# Altium schematic symbol library ic_digital.SchLib: 33 symbols
Pins are listed as number, name and electrical type; pins without a type are passive.

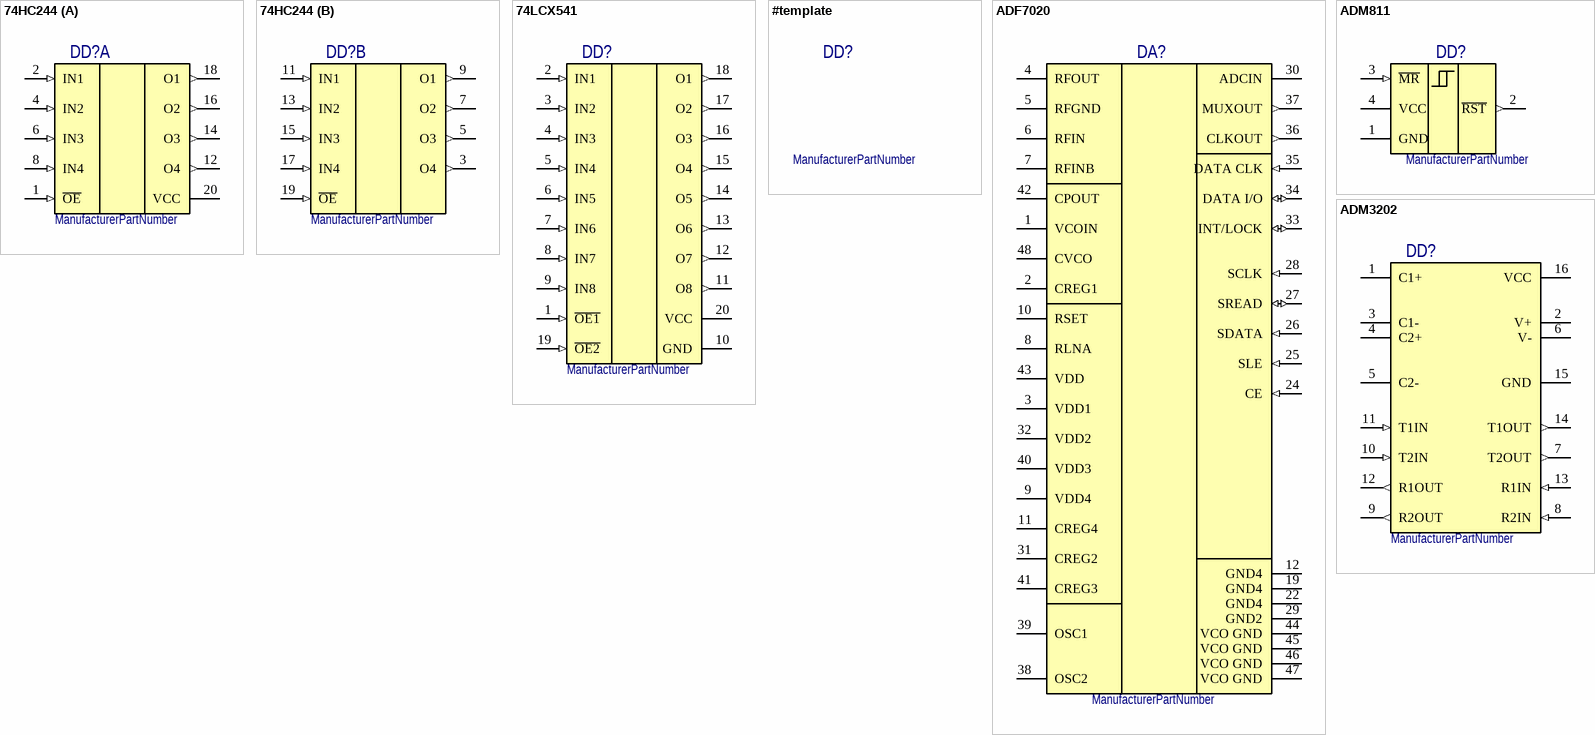
[diagram p0: symbols 74HC244 to ADM3202]

## 74HC244
designator DD?
ManufacturerPartNumber: ManufacturerPartNumber
part A pins: 1 ~{OE} (in), 2 IN1 (in), 4 IN2 (in), 6 IN3 (in), 8 IN4 (in), 10 GND (power) hidden to GND, 12 O4 (out), 14 O3 (out), 16 O2 (out), 18 O1 (out), 20 VCC (power)
part B pins: 3 O4 (out), 5 O3 (out), 7 O2 (out), 9 O1 (out), 11 IN1 (in), 13 IN2 (in), 15 IN3 (in), 17 IN4 (in), 19 ~{OE} (in)

## 74LCX541
designator DD?
ManufacturerPartNumber: ManufacturerPartNumber
pins: 1 ~{OE1} (in), 2 IN1 (in), 3 IN2 (in), 4 IN3 (in), 5 IN4 (in), 6 IN5 (in), 7 IN6 (in), 8 IN7 (in), 9 IN8 (in), 10 GND (power), 11 O8 (out), 12 O7 (out), 13 O6 (out), 14 O5 (out), 15 O4 (out), 16 O3 (out), 17 O2 (out), 18 O1 (out), 19 ~{OE2} (in), 20 VCC (power)

## #template
designator DD?
ManufacturerPartNumber: ManufacturerPartNumber

## ADF7020
designator DA?
ManufacturerPartNumber: ManufacturerPartNumber
pins: 1 VCOIN, 2 CREG1, 3 VDD1 (power), 4 RFOUT, 5 RFGND (power), 6 RFIN, 7 RFINB, 8 RLNA, 9 VDD4 (power), 10 RSET, 11 CREG4, 12 GND4 (power), 19 GND4 (power), 22 GND4 (power), 24 CE (in), 25 SLE (in), 26 SDATA (in), 27 SREAD (io), 28 SCLK (in), 29 GND2 (power), 30 ADCIN (power), 31 CREG2 (power), 32 VDD2 (power), 33 INT/LOCK (io), 34 DATA I/O (io), 35 DATA CLK (in), 36 CLKOUT (out), 37 MUXOUT (out), 38 OSC2, 39 OSC1, 40 VDD3 (power), 41 CREG3, 42 CPOUT, 43 VDD (power), 44 VCO GND (power), 45 VCO GND (power), 46 VCO GND (power), 47 VCO GND (power), 48 CVCO

## ADM811
designator DD?
ManufacturerPartNumber: ManufacturerPartNumber
pins: 1 GND (power), 2 ~{RST} (out), 3 ~{MR} (in), 4 VCC (power)

## ADM3202
designator DD?
ManufacturerPartNumber: ManufacturerPartNumber
pins: 1 C1+, 2 V+, 3 C1-, 4 C2+, 5 C2-, 6 V-, 7 T2OUT (out), 8 R2IN (in), 9 R2OUT (out), 10 T2IN (in), 11 T1IN (in), 12 R1OUT (out), 13 R1IN (in), 14 T1OUT (out), 15 GND (power), 16 VCC (power)

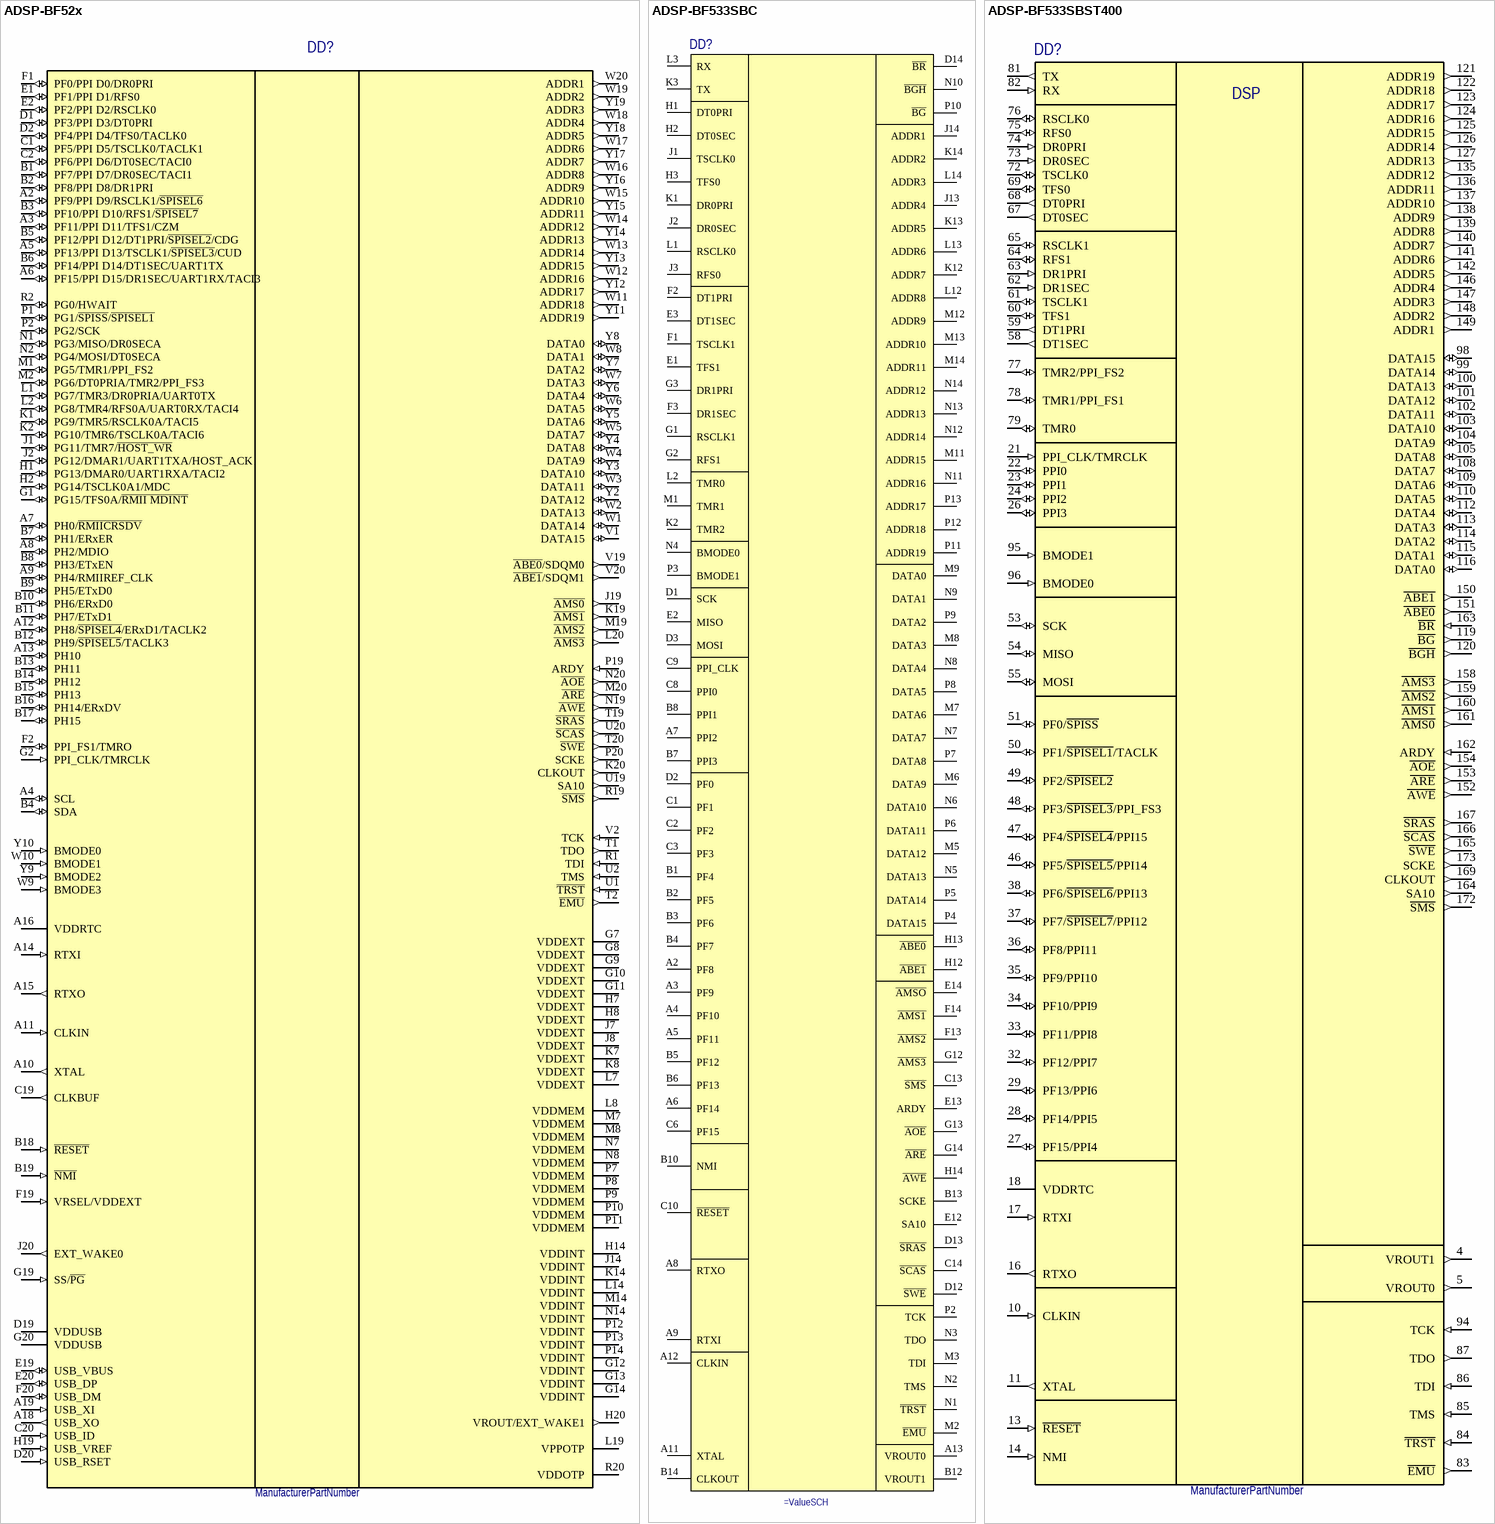
[diagram p1: symbols ADSP-BF52x to ADSP-BF533SBST400]

## ADSP-BF52x
designator DD?
ManufacturerPartNumber: ManufacturerPartNumber
pins: A1 GND (power) hidden to GND, A2 PF9/PPI D9/RSCLK1/~{SPISEL6} (io), A3 PF11/PPI D11/TFS1/CZM (io), A4 SCL (io), A5 PF13/PPI D13/TSCLK1/~{SPISEL3}/CUD (io), A6 PF15/PPI D15/DR1SEC/UART1RX/TACI3 (io), A7 PH0/~{RMIICRSDV} (io), A8 PH2/MDIO (io), A9 PH4/RMIIREF_CLK (io), A10 XTAL (out), A11 CLKIN (in), A12 PH8/~{SPISEL4}/ERxD1/TACLK2 (io), A13 PH10 (io), A14 RTXI (in), A15 RTXO (out), A16 VDDRTC (power), A17 GND (power) hidden to GND, A18 USB_XO (out), A19 USB_XI (in), A20 GND (power) hidden to GND, B1 PF7/PPI D7/DR0SEC/TACI1 (io), B2 PF8/PPI D8/DR1PRI (io), B3 PF10/PPI D10/RFS1/~{SPISEL7} (io), B4 SDA (io), B5 PF12/PPI D12/DT1PRI/~{SPISEL2}/CDG (io), B6 PF14/PPI D14/DT1SEC/UART1TX (io), B7 PH1/ERxER (io), B8 PH3/ETxEN (io), B9 PH5/ETxD0 (io), B10 PH6/ERxD0 (io), B11 PH7/ETxD1 (io), B12 PH9/~{SPISEL5}/TACLK3 (io), B13 PH11 (io), B14 PH12 (io), B15 PH13 (io), B16 PH14/ERxDV (io), B17 PH15 (io), B18 ~{RESET} (in), B19 ~{NMI} (in), B20 GND (power) hidden to GND, C1 PF5/PPI D5/TSCLK0/TACLK1 (io), C2 PF6/PPI D6/DT0SEC/TACI0 (io), C19 CLKBUF (out), C20 USB_ID (in), D1 PF3/PPI D3/DT0PRI (io), D2 PF4/PPI D4/TFS0/TACLK0 (io), D19 VDDUSB (power), D20 USB_RSET (in), E1 PF1/PPI D1/RFS0 (io), E2 PF2/PPI D2/RSCLK0 (io), E19 USB_VBUS (io), E20 USB_DP (io), F1 PF0/PPI D0/DR0PRI (io), F2 PPI_FS1/TMRO (io), F19 VRSEL/VDDEXT (in), F20 USB_DM (io), G1 PG15/TFS0A/~{RMII MDINT} (io), G2 PPI_CLK/TMRCLK (in), G7 VDDEXT (power), G8 VDDEXT (power), G9 VDDEXT (power), G10 VDDEXT (power), G11 VDDEXT (power), G12 VDDINT (power), G13 VDDINT (power), G14 VDDINT (power), G19 SS/~{PG} (in), G20 VDDUSB (power), H1 PG13/DMAR0/UART1RXA/TACI2 (io), H2 PG14/TSCLK0A1/MDC (io), H7 VDDEXT (power), H8 VDDEXT (power), H9 GND (power) hidden to GND, H10 GND (power) hidden to GND, H11 GND (power) hidden to GND, H12 GND (power) hidden to GND, H13 GND (power) hidden to GND, H14 VDDINT (power), H19 USB_VREF (in), H20 VROUT/EXT_WAKE1 (out), J1 PG11/TMR7/~{HOST_WR} (io), J2 PG12/DMAR1/UART1TXA/HOST_ACK (io), J7 VDDEXT (power), J8 VDDEXT (power), J9 GND (power) hidden to GND, J10 GND (power) hidden to GND, J11 GND (power) hidden to GND, J12 GND (power) hidden to GND, J13 GND (power) hidden to GND, J14 VDDINT (power), J19 ~{AMS0} (out), J20 EXT_WAKE0 (out), K1 PG9/TMR5/RSCLK0A/TACI5 (io), K2 PG10/TMR6/TSCLK0A/TACI6 (io), K7 VDDEXT (power), K8 VDDEXT (power), K9 GND (power) hidden to GND, K10 GND (power) hidden to GND, K11 GND (power) hidden to GND, K12 GND (power) hidden to GND, K13 GND (power) hidden to GND, K14 VDDINT (power), K19 ~{AMS1} (out), K20 CLKOUT (out), L1 PG7/TMR3/DR0PRIA/UART0TX (io), L2 PG8/TMR4/RFS0A/UART0RX/TACI4 (io), L7 VDDEXT (power), L8 VDDMEM (power), L9 GND (power) hidden to GND, L10 GND (power) hidden to GND, L11 GND (power) hidden to GND, L12 GND (power) hidden to GND, L13 GND (power) hidden to GND, L14 VDDINT (power), L19 VPPOTP (power), L20 ~{AMS3} (out), M1 PG5/TMR1/PPI_FS2 (io), M2 PG6/DT0PRIA/TMR2/PPI_FS3 (io), M7 VDDMEM (power), M8 VDDMEM (power), M9 GND (power) hidden to GND, M10 GND (power) hidden to GND, M11 GND (power) hidden to GND, M12 GND (power) hidden to GND, M13 GND (power) hidden to GND, M14 VDDINT (power), M19 ~{AMS2} (out), M20 ~{ARE} (out), N1 PG3/MISO/DR0SECA (io), N2 PG4/MOSI/DT0SECA (io), N7 VDDMEM (power), N8 VDDMEM (power), N9 GND (power) hidden to GND, N10 GND (power) hidden to GND, N11 GND (power) hidden to GND, N12 GND (power) hidden to GND, N13 GND (power) hidden to GND, N14 VDDINT (power), N19 ~{AWE} (out), N20 ~{AOE} (out), P1 PG1/~{SPISS}/~{SPISEL1} (io), P2 PG2/SCK (io), P7 VDDMEM (power), P8 VDDMEM (power), P9 VDDMEM (power), P10 VDDMEM (power), P11 VDDMEM (power), P12 VDDINT (power), P13 VDDINT (power), P14 VDDINT (power), P19 ARDY (in), P20 SCKE (out), R1 TDI (in), R2 PG0/HWAIT (io), R19 ~{SMS} (out), R20 VDDOTP (power), T1 TDO (out), T2 ~{EMU} (out), T19 ~{SRAS} (out), T20 ~{SWE} (out), U1 ~{TRST} (in), U2 TMS (in), U19 SA10 (out), U20 ~{SCAS} (out), V1 DATA15 (io), V2 TCK (in), V19 ~{ABE0}/SDQM0 (out), V20 ~{ABE1}/SDQM1 (out), W1 DATA14 (io), W2 DATA13 (io), W3 DATA11 (io), W4 DATA9 (io), W5 DATA7 (io), W6 DATA5 (io), W7 DATA3 (io), W8 DATA1 (io), W9 BMODE3 (in), W10 BMODE1 (in), W11 ADDR18 (out), W12 ADDR16 (out), W13 ADDR14 (out), W14 ADDR12 (out), W15 ADDR10 (out), W16 ADDR8 (out), W17 ADDR6 (out), W18 ADDR4 (out), W19 ADDR2 (out), W20 ADDR1 (out), Y1 GND (power) hidden to GND, Y2 DATA12 (io), Y3 DATA10 (io), Y4 DATA8 (io), Y5 DATA6 (io), Y6 DATA4 (io), Y7 DATA2 (io), Y8 DATA0 (io), Y9 BMODE2 (in), Y10 BMODE0 (in), Y11 ADDR19 (out), Y12 ADDR17 (out), Y13 ADDR15 (out), Y14 ADDR13 (out), Y15 ADDR11 (out), Y16 ADDR9 (out), Y17 ADDR7 (out), Y18 ADDR5 (out), Y19 ADDR3 (out), Y20 GND (power) hidden to GND

## ADSP-BF533SBC
designator DD?
pins: A1 VDDEXT hidden to VDDEXT, A2 PF8, A3 PF9, A4 PF10, A5 PF11, A6 PF14, A7 PPI2, A8 RTXO, A9 RTXI, A10 GND hidden to GND, A11 XTAL, A12 CLKIN, A13 VROUT0, A14 GND hidden to GND, B1 PF4, B2 PF5, B3 PF6, B4 PF7, B5 PF12, B6 PF13, B7 PPI3, B8 PPI1, B9 VDDRTC hidden to VDDRTC, B10 NMI, B11 GND hidden to GND, B12 VROUT1, B13 SCKE, B14 CLKOUT, C1 PF1, C2 PF2, C3 PF3, C4 GND hidden to GND, C5 GND hidden to GND, C6 PF15, C7 VDDEXT hidden to VDDEXT, C8 PPI0, C9 PPI_CLK, C10 ~{RESET}, C11 GND hidden to GND, C12 VDDEXT hidden to VDDEXT, C13 ~{SMS}, C14 ~{SCAS}, D1 SCK, D2 PF0, D3 MOSI, D4 GND hidden to GND, D5 VDDEXT hidden to VDDEXT, D6 VDDINT hidden to VDDINT, D7 GND hidden to GND, D8 GND hidden to GND, D9 VDDEXT hidden to VDDEXT, D10 GND hidden to GND, D11 GND hidden to GND, D12 ~{SWE}, D13 ~{SRAS}, D14 ~{BR}, E1 TFS1, E2 MISO, E3 DT1SEC, E4 VDDINT hidden to VDDINT, E11 VDDINT hidden to VDDINT, E12 SA10, E13 ARDY, E14 ~{AMSO}, F1 TSCLK1, F2 DT1PRI, F3 DR1SEC, F4 GND hidden to GND, F11 GND hidden to GND, F12 VDDEXT hidden to VDDEXT, F13 ~{AMS2}, F14 ~{AMS1}, G1 RSCLK1, G2 RFS1, G3 DR1PRI, G4 VDDEXT hidden to VDDEXT, G11 GND hidden to GND, G12 ~{AMS3}, G13 ~{AOE}, G14 ~{ARE}, H1 DT0PRI, H2 DT0SEC, H3 TFS0, H4 GND hidden to GND, H11 GND hidden to GND, H12 ~{ABE1}, H13 ~{ABE0}, H14 ~{AWE}, J1 TSCLK0, J2 DR0SEC, J3 RFS0, J4 VDDEXT hidden to VDDEXT, J11 VDDINT hidden to VDDINT, J12 VDDEXT hidden to VDDEXT, J13 ADDR4, J14 ADDR1, K1 DR0PRI, K2 TMR2, K3 TX, K4 GND hidden to GND, K11 GND hidden to GND, K12 ADDR7, K13 ADDR5, K14 ADDR2, L1 RSCLK0, L2 TMR0, L3 RX, L4 VDDINT hidden to VDDINT, L5 GND hidden to GND, L6 GND hidden to GND, L7 VDDEXT hidden to VDDEXT, L8 GND hidden to GND, L9 VDDINT hidden to VDDINT, L10 GND hidden to GND, L11 VDDEXT hidden to VDDEXT, L12 ADDR8, L13 ADDR6, L14 ADDR3, M1 TMR1, M2 ~{EMU}, M3 TDI, M4 GND hidden to GND, M5 DATA12, M6 DATA9, M7 DATA6, M8 DATA3, M9 DATA0, M10 GND hidden to GND, M11 ADDR15, M12 ADDR9, M13 ADDR10, M14 ADDR11, N1 ~{TRST}, N2 TMS, N3 TDO, N4 BMODE0, N5 DATA13, N6 DATA10, N7 DATA7, N8 DATA4, N9 DATA1, N10 ~{BGH}, N11 ADDR16, N12 ADDR14, N13 ADDR13, N14 ADDR12, P1 VDDEXT hidden to VDDEXT, P2 TCK, P3 BMODE1, P4 DATA15, P5 DATA14, P6 DATA11, P7 DATA8, P8 DATA5, P9 DATA2, P10 ~{BG}, P11 ADDR19, P12 ADDR18, P13 ADDR17, P14 GND hidden to GND

## ADSP-BF533SBST400
designator DD?, comment ManufacturerPartNumber
ManufacturerPartNumber: ManufacturerPartNumber
pins: 1 GND (power) hidden to GND, 2 GND (power) hidden to GND, 3 GND (power) hidden to GND, 4 VROUT1 (out), 5 VROUT0 (out), 6 VDDEXT (power) hidden to VDDEXT, 7 GND (power) hidden to GND, 8 GND (power) hidden to GND, 9 GND (power) hidden to GND, 10 CLKIN (in), 11 XTAL (out), 12 VDDEXT (power) hidden to VDDEXT, 13 ~{RESET} (in), 14 NMI (in), 15 GND (power) hidden to GND, 16 RTXO (out), 17 RTXI (in), 18 VDDRTC, 19 GND (power) hidden to GND, 20 VDDEXT (power) hidden to VDDEXT, 21 PPI_CLK/TMRCLK (in), 22 PPI0 (io), 23 PPI1 (io), 24 PPI2 (io), 25 VDDINT (power) hidden to VDDINT, 26 PPI3 (io), 27 PF15/PPI4 (io), 28 PF14/PPI5 (io), 29 PF13/PPI6 (io), 30 GND (power) hidden to GND, 31 VDDEXT (power) hidden to VDDEXT, 32 PF12/PPI7 (io), 33 PF11/PPI8 (io), 34 PF10/PPI9 (io), 35 PF9/PPI10 (io), 36 PF8/PPI11 (io), 37 PF7/~{SPISEL7}/PPI12 (io), 38 PF6/~{SPISEL6}/PPI13 (io), 39 GND (power) hidden to GND, 40 GND (power) hidden to GND, 41 GND (power) hidden to GND, 42 GND (power) hidden to GND, 43 GND (power) hidden to GND, 44 GND (power) hidden to GND, 45 VDDEXT (power) hidden to VDDEXT, 46 PF5/~{SPISEL5}/PPI14 (io), 47 PF4/~{SPISEL4}/PPI15 (io), 48 PF3/~{SPISEL3}/PPI_FS3 (io), 49 PF2/~{SPISEL2} (io), 50 PF1/~{SPISEL1}/TACLK (io), 51 PF0/~{SPISS} (io), 52 VDDINT (power) hidden to VDDINT, 53 SCK (io), 54 MISO (io), 55 MOSI (io), 56 GND (power) hidden to GND, 57 VDDEXT (power) hidden to VDDEXT, 58 DT1SEC (out), 59 DT1PRI (out), 60 TFS1 (io), 61 TSCLK1 (io), 62 DR1SEC (in), 63 DR1PRI (in), 64 RFS1 (io), 65 RSCLK1 (io), 66 VDDINT (power) hidden to VDDINT, 67 DT0SEC (out), 68 DT0PRI (out), 69 TFS0 (io), 70 GND (power) hidden to GND, 71 VDDEXT (power) hidden to VDDEXT, 72 TSCLK0 (io), 73 DR0SEC (in), 74 DR0PRI (in), 75 RFS0 (io), 76 RSCLK0 (io), 77 TMR2/PPI_FS2 (io), 78 TMR1/PPI_FS1 (io), 79 TMR0 (io), 80 VDDINT (power) hidden to VDDINT, 81 TX (out), 82 RX (in), 83 ~{EMU} (out), 84 ~{TRST} (in), 85 TMS (in), 86 TDI (in), 87 TDO (out), 88 GND (power) hidden to GND, 89 GND (power) hidden to GND, 90 GND (power) hidden to GND, 91 GND (power) hidden to GND, 92 GND (power) hidden to GND, 93 VDDEXT (power) hidden to VDDEXT, 94 TCK (in), 95 BMODE1 (in), 96 BMODE0 (in), 97 GND (power) hidden to GND, 98 DATA15 (io), 99 DATA14 (io), 100 DATA13 (io), 101 DATA12 (io), 102 DATA11 (io), 103 DATA10 (io), 104 DATA9 (io), 105 DATA8 (io), 106 GND (power) hidden to GND, 107 VDDEXT (power) hidden to VDDEXT, 108 DATA7 (io), 109 DATA6 (io), 110 DATA5 (io), 111 VDDINT (power) hidden to VDDINT, 112 DATA4 (io), 113 DATA3 (io), 114 DATA2 (io), 115 DATA1 (io), 116 DATA0 (io), 117 GND (power) hidden to GND, 118 VDDEXT (power) hidden to VDDEXT, 119 ~{BG} (out), 120 ~{BGH} (out), 121 ADDR19 (out), 122 ADDR18 (out), 123 ADDR17 (out), 124 ADDR16 (out), 125 ADDR15 (out), 126 ADDR14 (out), 127 ADDR13 (out), 128 GND (power) hidden to GND, 129 GND (power) hidden to GND, 130 GND (power) hidden to GND, 131 GND (power) hidden to GND, 132 GND (power) hidden to GND, 133 GND (power) hidden to GND, 134 VDDEXT (power) hidden to VDDEXT, 135 ADDR12 (out), 136 ADDR11 (out), 137 ADDR10 (out), 138 ADDR9 (out), 139 ADDR8 (out), 140 ADDR7 (out), 141 ADDR6 (out), 142 ADDR5 (out), 143 VDDINT (power) hidden to VDDINT, 144 GND (power) hidden to GND, 145 VDDEXT (power) hidden to VDDEXT, 146 ADDR4 (out), 147 ADDR3 (out), 148 ADDR2 (out), 149 ADDR1 (out), 150 ~{ABE1} (out), 151 ~{ABE0} (out), 152 ~{AWE} (out), 153 ~{ARE} (out), 154 ~{AOE} (out), 155 GND (power) hidden to GND, 156 VDDEXT (power) hidden to VDDEXT, 157 VDDINT (power) hidden to VDDINT, 158 ~{AMS3} (out), 159 ~{AMS2} (out), 160 ~{AMS1} (out), 161 ~{AMS0} (out), 162 ARDY (in), 163 ~{BR} (in), 164 SA10 (out), 165 ~{SWE} (out), 166 ~{SCAS} (out), 167 ~{SRAS} (out), 168 VDDINT (power) hidden to VDDINT, 169 CLKOUT (out), 170 GND (power) hidden to GND, 171 VDDEXT (power) hidden to VDDEXT, 172 ~{SMS} (out), 173 SCKE (out), 174 GND (power) hidden to GND, 175 GND (power) hidden to GND, 176 GND (power) hidden to GND
text: DSP

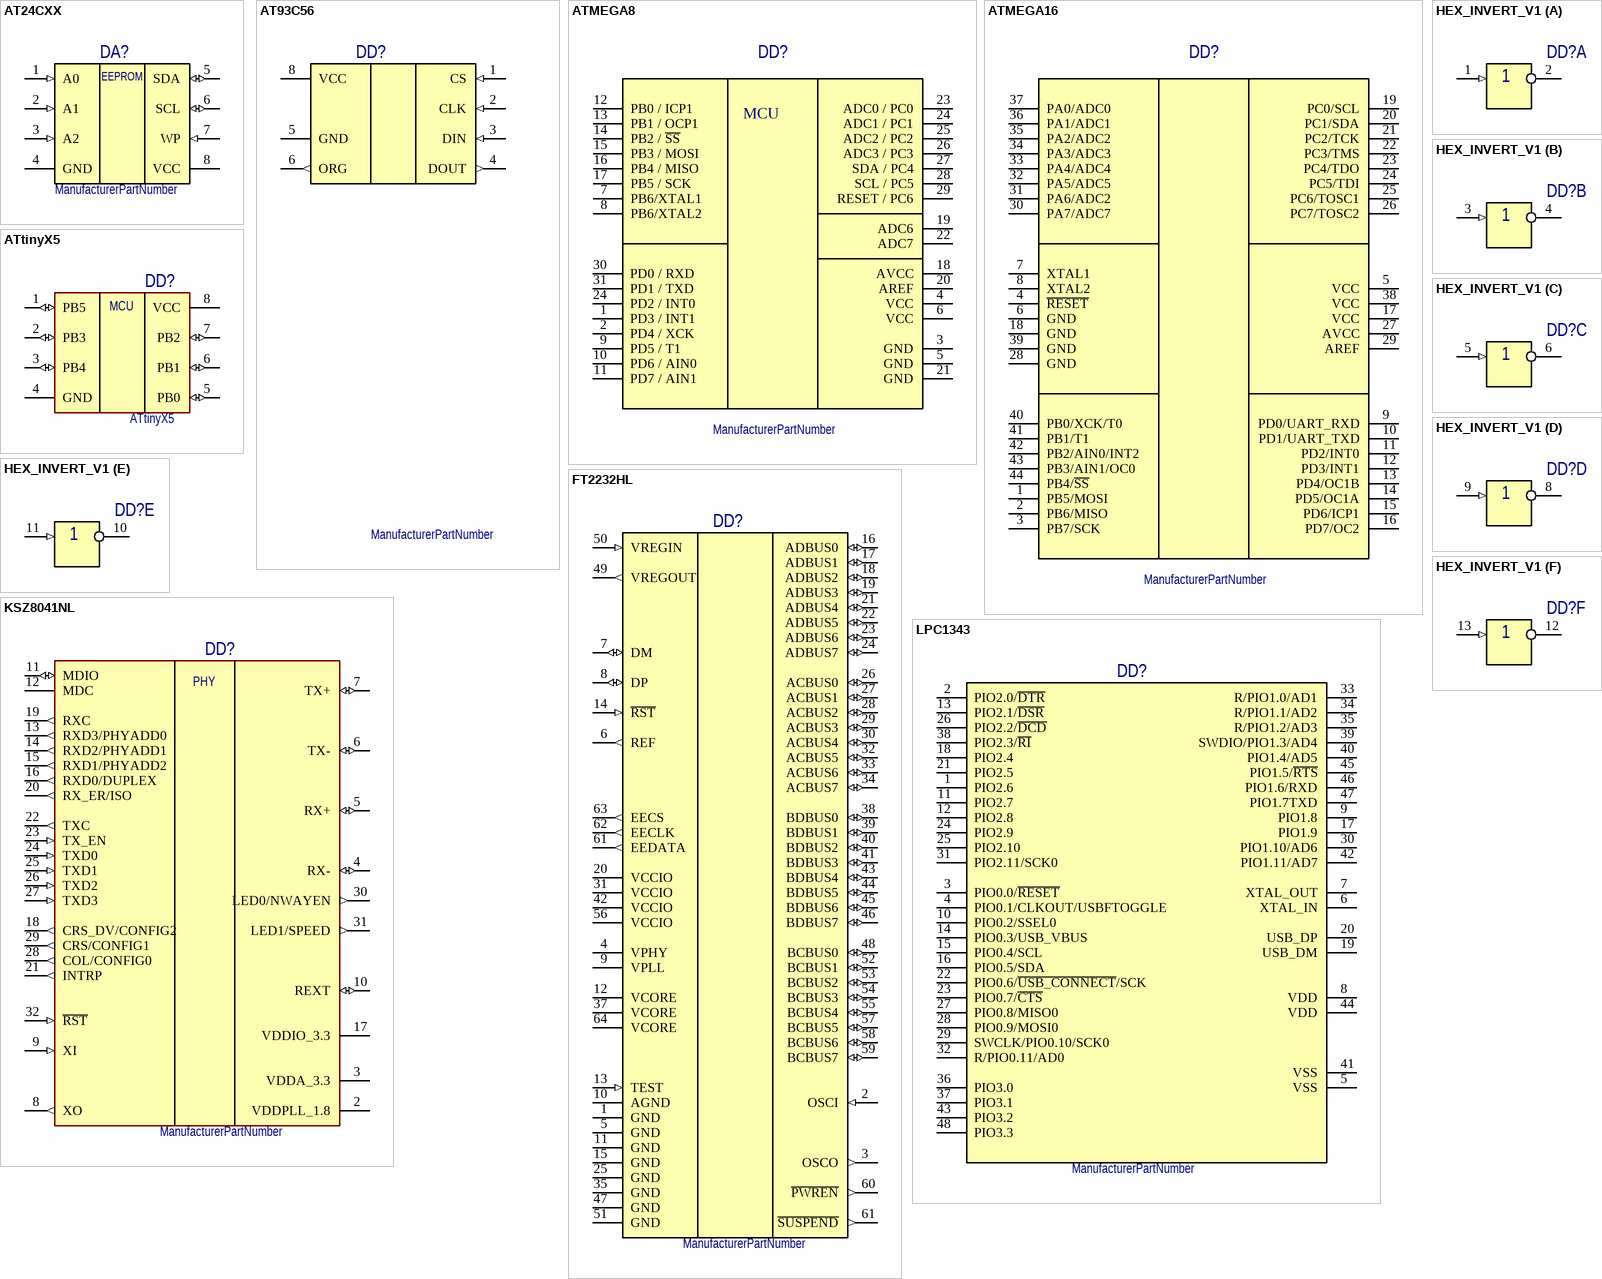
[diagram p2: symbols AT24CXX to LPC1343]

## AT24CXX
designator DA?
ManufacturerPartNumber: ManufacturerPartNumber
pins: 1 A0 (in), 2 A1 (in), 3 A2 (in), 4 GND (power), 5 SDA (io), 6 SCL (io), 7 WP (in), 8 VCC (power)
text: EEPROM

## AT93C56
designator DD?
ManufacturerPartNumber: ManufacturerPartNumber
pins: 1 CS (in), 2 CLK (in), 3 DIN (in), 4 DOUT (out), 5 GND (power), 6 ORG (out), 7 NC (io) hidden, 8 VCC (power)

## ATMEGA8
designator DD?
ManufacturerPartNumber: ManufacturerPartNumber
pins: 1 PD3 / INT1, 2 PD4 / XCK, 3 GND, 4 VCC, 5 GND, 6 VCC, 7 PB6/XTAL1, 8 PB6/XTAL2, 9 PD5 / T1, 10 PD6 / AIN0, 11 PD7 / AIN1, 12 PB0 / ICP1, 13 PB1 / OCP1, 14 PB2 / ~{SS}, 15 PB3 / MOSI, 16 PB4 / MISO, 17 PB5 / SCK, 18 AVCC, 19 ADC6, 20 AREF, 21 GND, 22 ADC7, 23 ADC0 / PC0, 24 ADC1 / PC1, 24 PD2 / INT0, 25 ADC2 / PC2, 26 ADC3 / PC3, 27 SDA / PC4, 28 SCL / PC5, 29 RESET / PC6, 30 PD0 / RXD, 31 PD1 / TXD
text: MCU

## ATMEGA16
designator DD?
ManufacturerPartNumber: ManufacturerPartNumber
pins: 1 PB5/MOSI, 2 PB6/MISO, 3 PB7/SCK, 4 ~{RESET}, 5 VCC, 6 GND, 7 XTAL1, 8 XTAL2, 9 PD0/UART_RXD, 10 PD1/UART_TXD, 11 PD2/INT0, 12 PD3/INT1, 13 PD4/OC1B, 14 PD5/OC1A, 15 PD6/ICP1, 16 PD7/OC2, 17 VCC, 18 GND, 19 PC0/SCL, 20 PC1/SDA, 21 PC2/TCK, 22 PC3/TMS, 23 PC4/TDO, 24 PC5/TDI, 25 PC6/TOSC1, 26 PC7/TOSC2, 27 AVCC, 28 GND, 29 AREF, 30 PA7/ADC7, 31 PA6/ADC2, 32 PA5/ADC5, 33 PA4/ADC4, 34 PA3/ADC3, 35 PA2/ADC2, 36 PA1/ADC1, 37 PA0/ADC0, 38 VCC, 39 GND, 40 PB0/XCK/T0, 41 PB1/T1, 42 PB2/AIN0/INT2, 43 PB3/AIN1/OC0, 44 PB4/~{SS}

## ATtinyX5
designator DD?  ManufacturerPartNumber: ATtinyX5
Manufacturer: Atmel; Корпус: DIP, SOIC
pins: 1 PB5 (io) "PCINT5/#RESET/ADC0/dW", 2 PB3 (io) "PCINT3/XTAL1/CLKI/#OC1B/ADC3", 3 PB4 (io) "(PCINT4/XTAL2/CLKO/OC1B/ADC2", 4 GND (power), 5 PB0 (io) "MOSI/DI/SDA/AIN0/OC0A/#OC1A/AREF/PCINT0", 6 PB1 (io) "MISO/DO/AIN1/OC0B/OC1A/PCINT1", 7 PB2 (io) "SCK/USCK/SCL/ADC1/T0/INT0/PCINT2", 8 VCC (power)
1 alternate drawing of the same symbol
text: MCU

## FT2232HL
designator DD?
ManufacturerPartNumber: ManufacturerPartNumber
pins: 1 GND (power), 2 OSCI (in), 3 OSCO (out), 4 VPHY, 5 GND (power), 6 REF (out), 7 DM (io), 8 DP (io), 9 VPLL, 10 AGND (power), 11 GND (power), 12 VCORE (power), 13 TEST (in), 14 ~{RST} (in), 15 GND (power), 16 ADBUS0 (io), 17 ADBUS1 (io), 18 ADBUS2 (io), 19 ADBUS3 (io), 20 VCCIO (power), 21 ADBUS4 (io), 22 ADBUS5 (io), 23 ADBUS6 (io), 24 ADBUS7 (io), 25 GND (power), 26 ACBUS0 (io), 27 ACBUS1 (io), 28 ACBUS2 (io), 29 ACBUS3 (io), 30 ACBUS4 (io), 31 VCCIO (power), 32 ACBUS5 (io), 33 ACBUS6 (io), 34 ACBUS7 (io), 35 GND (power), 37 VCORE (power), 38 BDBUS0 (io), 39 BDBUS1 (io), 40 BDBUS2 (io), 41 BDBUS3 (io), 42 VCCIO (power), 43 BDBUS4 (io), 44 BDBUS5 (io), 45 BDBUS6 (io), 46 BDBUS7 (io), 47 GND (power), 48 BCBUS0 (io), 49 VREGOUT (out), 50 VREGIN (in), 51 GND (power), 52 BCBUS1 (io), 53 BCBUS2 (io), 54 BCBUS3 (io), 55 BCBUS4 (io), 56 VCCIO (power), 57 BCBUS5 (io), 58 BCBUS6 (io), 59 BCBUS7 (io), 60 ~{PWREN} (out), 61 ~{SUSPEND} (out), 61 EEDATA (out), 62 EECLK (out), 63 EECS (out), 64 VCORE (power)

## HEX_INVERT_V1
designator DD?
ManufacturerPartNumber: ManufacturerPartNumber
pins on every part: 7 (power) hidden to GND
part A pins: 1 IN (in), 2 OUT, 14 (power) hidden to VCC
part B pins: 3 IN (in), 4 OUT
part C pins: 5 IN (in), 6 OUT
part D pins: 8 OUT, 9 IN (in)
part E pins: 10 OUT, 11 IN (in)
part F pins: 12 OUT, 13 IN (in)

## KSZ8041NL
designator DD?
ManufacturerPartNumber: ManufacturerPartNumber
pins: 1 GND (power) hidden to GND, 2 VDDPLL_1.8 (power), 3 VDDA_3.3 (power), 4 RX- (io), 5 RX+ (io), 6 TX- (io), 7 TX+ (io), 8 XO (out), 9 XI (in), 10 REXT (io), 11 MDIO (io), 12 MDC, 13 RXD3/PHYADD0 (out), 14 RXD2/PHYADD1 (out), 15 RXD1/PHYADD2 (out), 16 RXD0/DUPLEX (out), 17 VDDIO_3.3 (power), 18 CRS_DV/CONFIG2 (out), 19 RXC (out), 20 RX_ER/ISO (out), 21 INTRP (out), 22 TXC (out), 23 TX_EN (in), 24 TXD0 (in), 25 TXD1 (in), 26 TXD2 (in), 27 TXD3 (in), 28 COL/CONFIG0 (out), 29 CRS/CONFIG1 (out), 30 LED0/NWAYEN (out), 31 LED1/SPEED (out), 32 ~{RST} (in), 33 GND (power) hidden to GND
text: PHY

## LPC1343
designator DD?
Supplier 1: Mouser; Supplier Part Number 1: 771-LPC1343FBD48151; ManufacturerPartNumber: ManufacturerPartNumber
pins: 1 PIO2.6, 2 PIO2.0/~{DTR}, 3 PIO0.0/~{RESET}, 4 PIO0.1/CLKOUT/USBFTOGGLE, 5 VSS, 6 XTAL_IN, 7 XTAL_OUT, 8 VDD (power), 9 PIO1.8, 10 PIO0.2/SSEL0, 11 PIO2.7, 12 PIO2.8, 13 PIO2.1/~{DSR}, 14 PIO0.3/USB_VBUS, 15 PIO0.4/SCL, 16 PIO0.5/SDA, 17 PIO1.9, 18 PIO2.4, 19 USB_DM, 20 USB_DP, 21 PIO2.5, 22 PIO0.6/~{USB_CONNECT}/SCK, 23 PIO0.7/~{CTS}, 24 PIO2.9, 25 PIO2.10, 26 PIO2.2/~{DCD}, 27 PIO0.8/MISO0, 28 PIO0.9/MOSI0, 29 SWCLK/PIO0.10/SCK0, 30 PIO1.10/AD6, 31 PIO2.11/SCK0, 32 R/PIO0.11/AD0, 33 R/PIO1.0/AD1, 34 R/PIO1.1/AD2, 35 R/PIO1.2/AD3, 36 PIO3.0, 37 PIO3.1, 38 PIO2.3/~{RI}, 39 SWDIO/PIO1.3/AD4, 40 PIO1.4/AD5, 41 VSS, 42 PIO1.11/AD7, 43 PIO3.2, 44 VDD (power), 45 PIO1.5/~{RTS}, 46 PIO1.6/RXD, 47 PIO1.7TXD, 48 PIO3.3

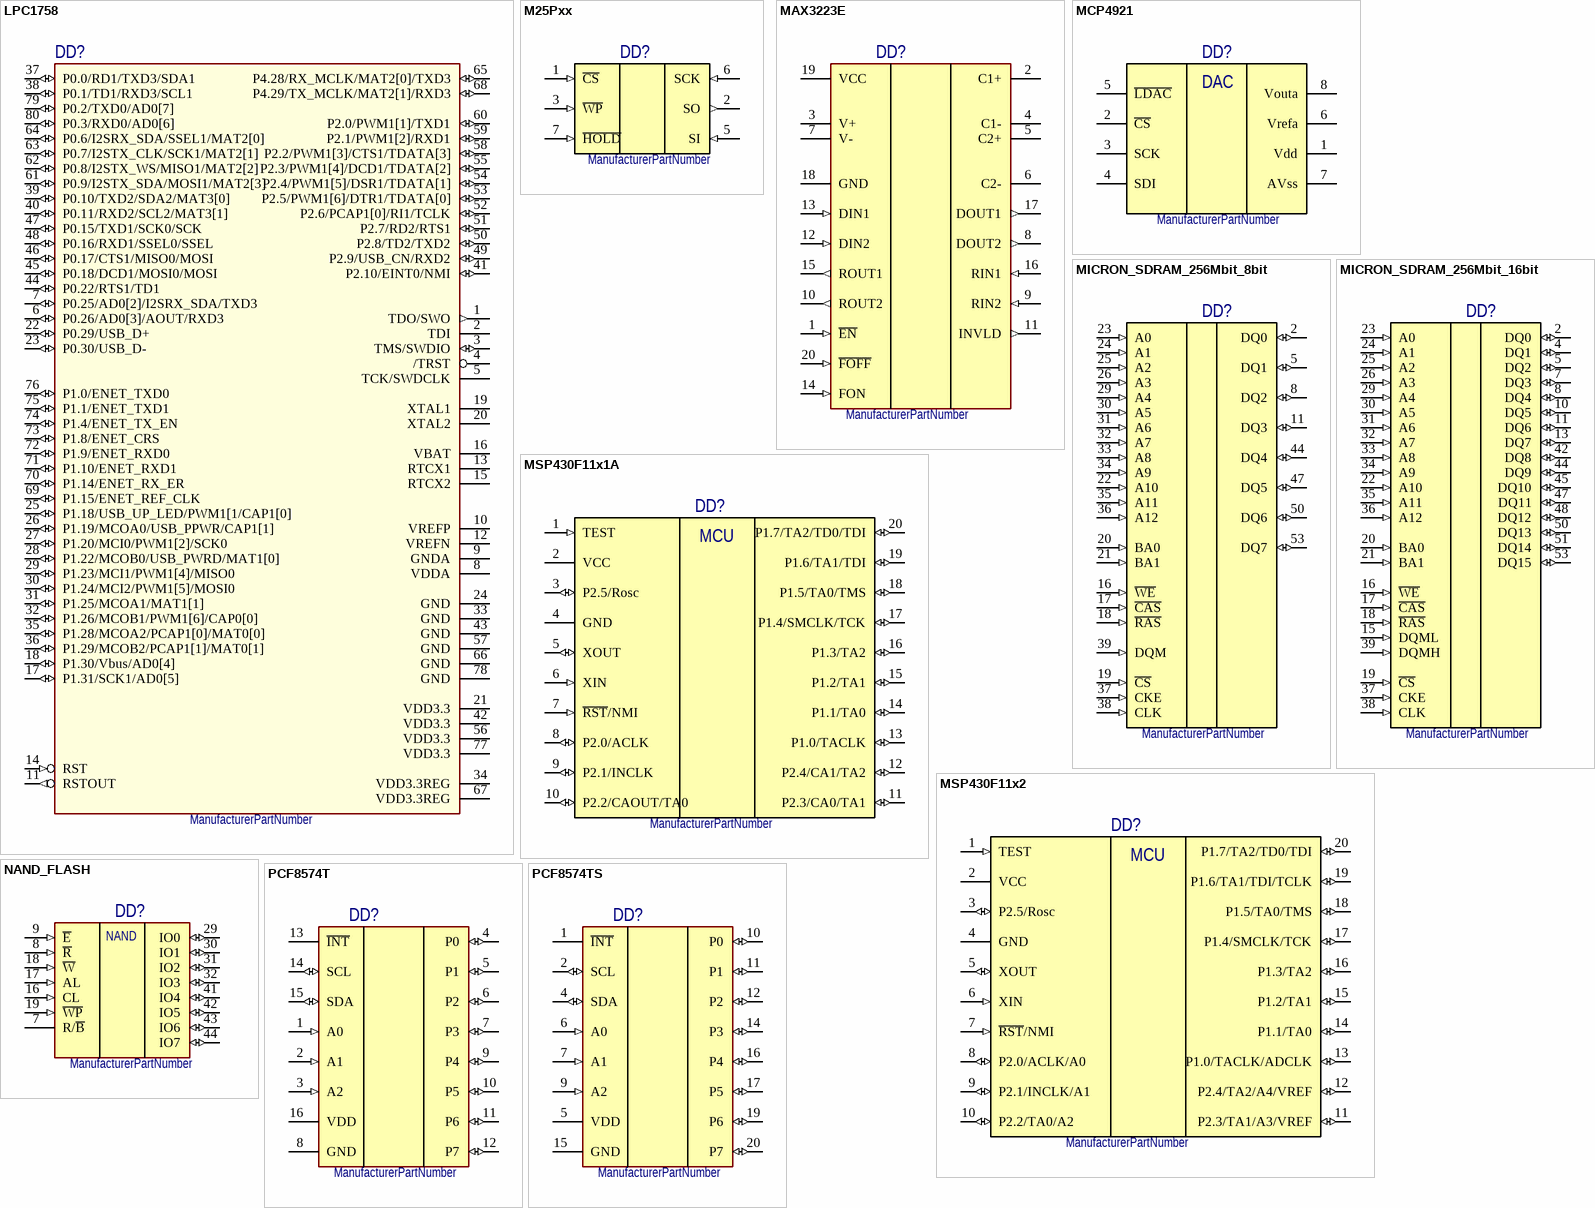
[diagram p3: symbols LPC1758 to PCF8574TS]

## LPC1758
designator DD?
ManufacturerPartNumber: ManufacturerPartNumber
pins: 1 TDO/SWO (out), 2 TDI, 3 TMS/SWDIO (io), 4 /TRST, 5 TCK/SWDCLK, 6 P0.26/AD0[3]/AOUT/RXD3 (io), 7 P0.25/AD0[2]/I2SRX_SDA/TXD3 (io), 8 VDDA (power), 9 GNDA (power), 10 VREFP (power), 11 RSTOUT (out), 12 VREFN (power), 13 RTCX1, 14 RST (in), 15 RTCX2, 16 VBAT (power), 17 P1.31/SCK1/AD0[5] (io), 18 P1.30/Vbus/AD0[4] (io), 19 XTAL1, 20 XTAL2, 21 VDD3.3 (power), 22 P0.29/USB_D+ (io), 23 P0.30/USB_D- (io), 24 GND (power), 25 P1.18/USB_UP_LED/PWM1[1/CAP1[0] (io), 26 P1.19/MCOA0/USB_PPWR/CAP1[1] (io), 27 P1.20/MCI0/PWM1[2]/SCK0 (io), 28 P1.22/MCOB0/USB_PWRD/MAT1[0] (io), 29 P1.23/MCI1/PWM1[4]/MISO0 (io), 30 P1.24/MCI2/PWM1[5]/MOSI0 (io), 31 P1.25/MCOA1/MAT1[1] (io), 32 P1.26/MCOB1/PWM1[6]/CAP0[0] (io), 33 GND (power), 34 VDD3.3REG (power), 35 P1.28/MCOA2/PCAP1[0]/MAT0[0] (io), 36 P1.29/MCOB2/PCAP1[1]/MAT0[1] (io), 37 P0.0/RD1/TXD3/SDA1 (io), 38 P0.1/TD1/RXD3/SCL1 (io), 39 P0.10/TXD2/SDA2/MAT3[0] (io), 40 P0.11/RXD2/SCL2/MAT3[1] (io), 41 P2.10/EINT0/NMI (io), 42 VDD3.3 (power), 43 GND (power), 44 P0.22/RTS1/TD1 (io), 45 P0.18/DCD1/MOSI0/MOSI (io), 46 P0.17/CTS1/MISO0/MOSI (io), 47 P0.15/TXD1/SCK0/SCK (io), 48 P0.16/RXD1/SSEL0/SSEL (io), 49 P2.9/USB_CN/RXD2 (io), 50 P2.8/TD2/TXD2 (io), 51 P2.7/RD2/RTS1 (io), 52 P2.6/PCAP1[0]/RI1/TCLK (io), 53 P2.5/PWM1[6]/DTR1/TDATA[0] (io), 54 P2.4/PWM1[5]/DSR1/TDATA[1] (io), 55 P2.3/PWM1[4]/DCD1/TDATA[2] (io), 56 VDD3.3 (power), 57 GND (power), 58 P2.2/PWM1[3]/CTS1/TDATA[3] (io), 59 P2.1/PWM1[2]/RXD1 (io), 60 P2.0/PWM1[1]/TXD1 (io), 61 P0.9/I2STX_SDA/MOSI1/MAT2[3] (io), 62 P0.8/I2STX_WS/MISO1/MAT2[2] (io), 63 P0.7/I2STX_CLK/SCK1/MAT2[1] (io), 64 P0.6/I2SRX_SDA/SSEL1/MAT2[0] (io), 65 P4.28/RX_MCLK/MAT2[0]/TXD3 (io), 66 GND (power), 67 VDD3.3REG (power), 68 P4.29/TX_MCLK/MAT2[1]/RXD3 (io), 69 P1.15/ENET_REF_CLK (io), 70 P1.14/ENET_RX_ER (io), 71 P1.10/ENET_RXD1 (io), 72 P1.9/ENET_RXD0 (io), 73 P1.8/ENET_CRS (io), 74 P1.4/ENET_TX_EN (io), 75 P1.1/ENET_TXD1 (io), 76 P1.0/ENET_TXD0 (io), 77 VDD3.3 (power), 78 GND (power), 79 P0.2/TXD0/AD0[7] (io), 80 P0.3/RXD0/AD0[6] (io)

## M25Pxx
designator DD?
ManufacturerPartNumber: ManufacturerPartNumber
pins: 1 ~{CS} (in), 2 SO (out), 3 ~{WP} (in), 4 GND (power) hidden to GND, 5 SI (in), 6 SCK (in), 7 ~{HOLD} (in), 8 VCC (power) hidden to 3.3V

## MAX3223E
designator DD?
ManufacturerPartNumber: ManufacturerPartNumber
pins: 1 ~{EN} (in), 2 C1+, 3 V+, 4 C1-, 5 C2+, 6 C2-, 7 V-, 8 DOUT2 (out) "RS232 I/O", 9 RIN2 (in) "RS232 I/O", 10 ROUT2 (out) "3V I/O", 11 INVLD (out), 12 DIN2 (in) "3V I/O", 13 DIN1 (in) "3V I/O", 14 FON (in), 15 ROUT1 (out) "3V I/O", 16 RIN1 (in) "RS232 I/O", 17 DOUT1 (out) "RS232 I/O", 18 GND (power), 19 VCC (power), 20 ~{FOFF} (in)

## MCP4921
designator DD?
ManufacturerPartNumber: ManufacturerPartNumber
pins: 1 Vdd, 2 ~{CS}, 3 SCK, 4 SDI, 5 ~{LDAC}, 6 Vrefa, 7 AVss, 8 Vouta
text: DAC

## MICRON_SDRAM_256Mbit_8bit
designator DD?
ManufacturerPartNumber: ManufacturerPartNumber
pins: 1 VDD (power) hidden to 3.3V, 2 DQ0 (io), 3 VDDQ (power) hidden to 3.3V, 5 DQ1 (io), 6 GNDQ (power) hidden to GND, 8 DQ2 (io), 9 VDDQ (power) hidden to 3.3V, 11 DQ3 (io), 12 GNDQ (power) hidden to GND, 14 VDD (power) hidden to 3.3V, 16 ~{WE} (in), 17 ~{CAS} (in), 18 ~{RAS} (in), 19 ~{CS} (in), 20 BA0 (in), 21 BA1 (in), 22 A10 (in), 23 A0 (in), 24 A1 (in), 25 A2 (in), 26 A3 (in), 27 VDD (power) hidden to 3.3V, 28 GND (power) hidden to GND, 29 A4 (in), 30 A5 (in), 31 A6 (in), 32 A7 (in), 33 A8 (in), 34 A9 (in), 35 A11 (in), 36 A12 (in), 37 CKE (in), 38 CLK (in), 39 DQM (in), 41 GND (power) hidden to GND, 43 VDDQ (power) hidden to 3.3V, 44 DQ4 (io), 46 GNDQ (power) hidden to GND, 47 DQ5 (io), 49 VDDQ (power) hidden to 3.3V, 50 DQ6 (io), 52 GNDQ (power) hidden to GND, 53 DQ7 (io), 54 GND (power) hidden to GND

## MICRON_SDRAM_256Mbit_16bit
designator DD?
ManufacturerPartNumber: ManufacturerPartNumber
pins: 1 VDD (power) hidden to 3.3V, 2 DQ0 (io), 3 VDDQ (power) hidden to 3.3V, 4 DQ1 (io), 5 DQ2 (io), 6 GNDQ (power) hidden to GND, 7 DQ3 (io), 8 DQ4 (io), 9 VDDQ (power) hidden to 3.3V, 10 DQ5 (io), 11 DQ6 (io), 12 GNDQ (power) hidden to GND, 13 DQ7 (io), 14 VDD (power) hidden to 3.3V, 15 DQML (in), 16 ~{WE} (in), 17 ~{CAS} (in), 18 ~{RAS} (in), 19 ~{CS} (in), 20 BA0 (in), 21 BA1 (in), 22 A10 (in), 23 A0 (in), 24 A1 (in), 25 A2 (in), 26 A3 (in), 27 VDD (power) hidden to 3.3V, 28 GND (power) hidden to GND, 29 A4 (in), 30 A5 (in), 31 A6 (in), 32 A7 (in), 33 A8 (in), 34 A9 (in), 35 A11 (in), 36 A12 (in), 37 CKE (in), 38 CLK (in), 39 DQMH (in), 41 GND (power) hidden to GND, 42 DQ8 (io), 43 VDDQ (power) hidden to 3.3V, 44 DQ9 (io), 45 DQ10 (io), 46 GNDQ (power) hidden to GND, 47 DQ11 (io), 48 DQ12 (io), 49 VDDQ (power) hidden to 3.3V, 50 DQ13 (io), 51 DQ14 (io), 52 GNDQ (power) hidden to GND, 53 DQ15 (io), 54 GND (power) hidden to GND

## MSP430F11x1A
designator DD?
ManufacturerPartNumber: ManufacturerPartNumber
pins: 1 TEST (in), 2 VCC (power), 3 P2.5/Rosc (io), 4 GND (power), 5 XOUT (io), 6 XIN (in), 7 ~{RST}/NMI (in), 8 P2.0/ACLK (io), 9 P2.1/INCLK (io), 10 P2.2/CAOUT/TA0 (io), 11 P2.3/CA0/TA1 (io), 12 P2.4/CA1/TA2 (io), 13 P1.0/TACLK (io), 14 P1.1/TA0 (io), 15 P1.2/TA1 (io), 16 P1.3/TA2 (io), 17 P1.4/SMCLK/TCK (io), 18 P1.5/TA0/TMS (io), 19 P1.6/TA1/TDI (io), 20 P1.7/TA2/TD0/TDI (io)
text: MCU

## MSP430F11x2
designator DD?
ManufacturerPartNumber: ManufacturerPartNumber
pins: 1 TEST (in), 2 VCC (power), 3 P2.5/Rosc (io), 4 GND (power), 5 XOUT (io), 6 XIN (in), 7 ~{RST}/NMI (in), 8 P2.0/ACLK/A0 (io), 9 P2.1/INCLK/A1 (io), 10 P2.2/TA0/A2 (io), 11 P2.3/TA1/A3/VREF (io), 12 P2.4/TA2/A4/VREF (io), 13 P1.0/TACLK/ADCLK (io), 14 P1.1/TA0 (io), 15 P1.2/TA1 (io), 16 P1.3/TA2 (io), 17 P1.4/SMCLK/TCK (io), 18 P1.5/TA0/TMS (io), 19 P1.6/TA1/TDI/TCLK (io), 20 P1.7/TA2/TD0/TDI (io)
text: MCU

## NAND_FLASH
designator DD?
ManufacturerPartNumber: ManufacturerPartNumber
pins: 7 R/~{B} (oc), 8 ~{R} (in), 9 ~{E} (in), 12 VDD (power) hidden to 3.3V, 13 GND (power) hidden to GND, 16 CL (in), 17 AL (in), 18 ~{W} (in), 19 ~{WP} (in), 29 IO0 (io), 30 IO1 (io), 31 IO2 (io), 32 IO3 (io), 36 GND (power) hidden to GND, 37 VDD (power) hidden to 3.3V, 41 IO4 (io), 42 IO5 (io), 43 IO6 (io), 44 IO7 (io)
text: NAND

## PCF8574T
designator DD?
ManufacturerPartNumber: ManufacturerPartNumber
pins: 1 A0 (in), 2 A1 (in), 3 A2 (in), 4 P0 (io), 5 P1 (io), 6 P2 (io), 7 P3 (io), 8 GND (power), 9 P4 (io), 10 P5 (io), 11 P6 (io), 12 P7 (io), 13 ~{INT} (oc), 14 SCL (io), 15 SDA (io), 16 VDD (power), 29 (power) hidden to GND

## PCF8574TS
designator DD?
ManufacturerPartNumber: ManufacturerPartNumber
pins: 1 ~{INT} (oc), 2 SCL (io), 4 SDA (io), 5 VDD (power), 6 A0 (in), 7 A1 (in), 9 A2 (in), 10 P0 (io), 11 P1 (io), 12 P2 (io), 14 P3 (io), 15 GND (power), 16 P4 (io), 17 P5 (io), 19 P6 (io), 20 P7 (io)

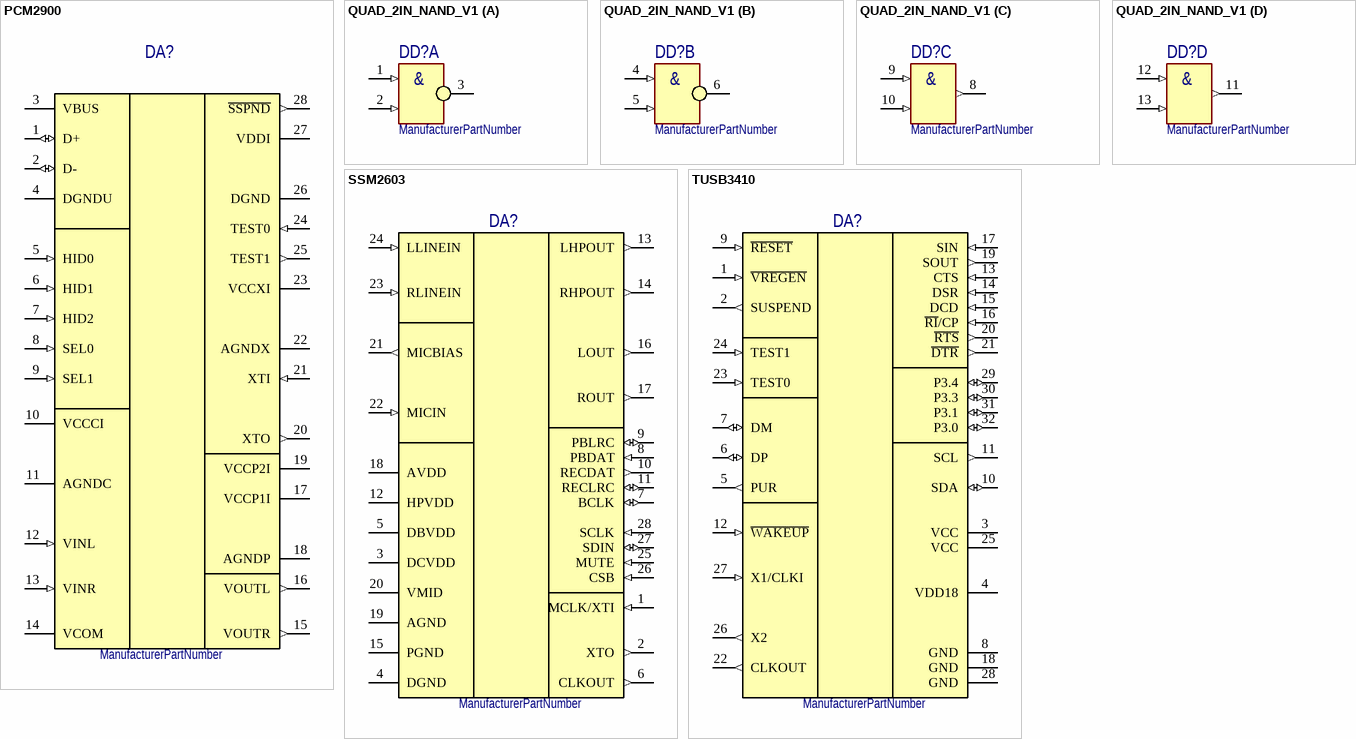
[diagram p4: symbols PCM2900 to TUSB3410]

## PCM2900
designator DA?
ManufacturerPartNumber: ManufacturerPartNumber
pins: 1 D+ (io), 2 D- (io), 3 VBUS, 4 DGNDU (power), 5 HID0 (in), 6 HID1 (in), 7 HID2 (in), 8 SEL0 (in), 9 SEL1 (in), 10 VCCCI, 11 AGNDC (power), 12 VINL (in), 13 VINR (in), 14 VCOM, 15 VOUTR (out), 16 VOUTL (out), 17 VCCP1I, 18 AGNDP (power), 19 VCCP2I, 20 XTO (out), 21 XTI (in), 22 AGNDX (power), 23 VCCXI, 24 TEST0 (in), 25 TEST1 (out), 26 DGND (power), 27 VDDI, 28 ~{SSPND} (out)

## QUAD_2IN_NAND_V1
designator DD?
ManufacturerPartNumber: ManufacturerPartNumber
pins on every part: 7 (power) hidden to GND, 14 (power) hidden to GND
part A pins: 1 (in), 2 (in), 3 (out)
part B pins: 4 (in), 5 (in), 6 (out)
part C pins: 8 (out), 9 (in), 10 (in)
part D pins: 11 (out), 12 (in), 13 (in)
part A text: &
part B text: &
part C text: &
part D text: &

## SSM2603
designator DA?
ManufacturerPartNumber: ManufacturerPartNumber
pins: 1 MCLK/XTI (in), 2 XTO (out), 3 DCVDD (power), 4 DGND (power), 5 DBVDD (power), 6 CLKOUT (out), 7 BCLK (io), 8 PBDAT (in), 9 PBLRC (io), 10 RECDAT (out), 11 RECLRC (io), 12 HPVDD (power), 13 LHPOUT (out), 14 RHPOUT (out), 15 PGND (power), 16 LOUT (out), 17 ROUT (out), 18 AVDD (power), 19 AGND (power), 20 VMID (power), 21 MICBIAS (out), 22 MICIN (in), 23 RLINEIN (in), 24 LLINEIN (in), 25 MUTE (in), 26 CSB (in), 27 SDIN (io), 28 SCLK (in), 29 (power) hidden to GND

## TUSB3410
designator DA?
ManufacturerPartNumber: ManufacturerPartNumber
pins: 1 ~{VREGEN} (in), 2 SUSPEND (out), 3 VCC (power), 4 VDD18 (power), 5 PUR (out), 6 DP (io), 7 DM (io), 8 GND (power), 9 ~{RESET} (in), 10 SDA (io), 11 SCL (out), 12 ~{WAKEUP} (in), 13 CTS (in), 14 DSR (in), 15 DCD (in), 16 ~{RI}/CP (in), 17 SIN (in), 18 GND (power), 19 SOUT (out), 20 ~{RTS} (out), 21 ~{DTR} (out), 22 CLKOUT (out), 23 TEST0 (in), 24 TEST1 (in), 25 VCC (power), 26 X2 (out), 27 X1/CLKI (in), 28 GND (power), 29 P3.4 (io), 30 P3.3 (io), 31 P3.1 (io), 32 P3.0 (io)